# Altium integrated library Integrated_Library.IntLib: 10 symbols
Pins are listed as number, name and electrical type; pins without a type are passive.

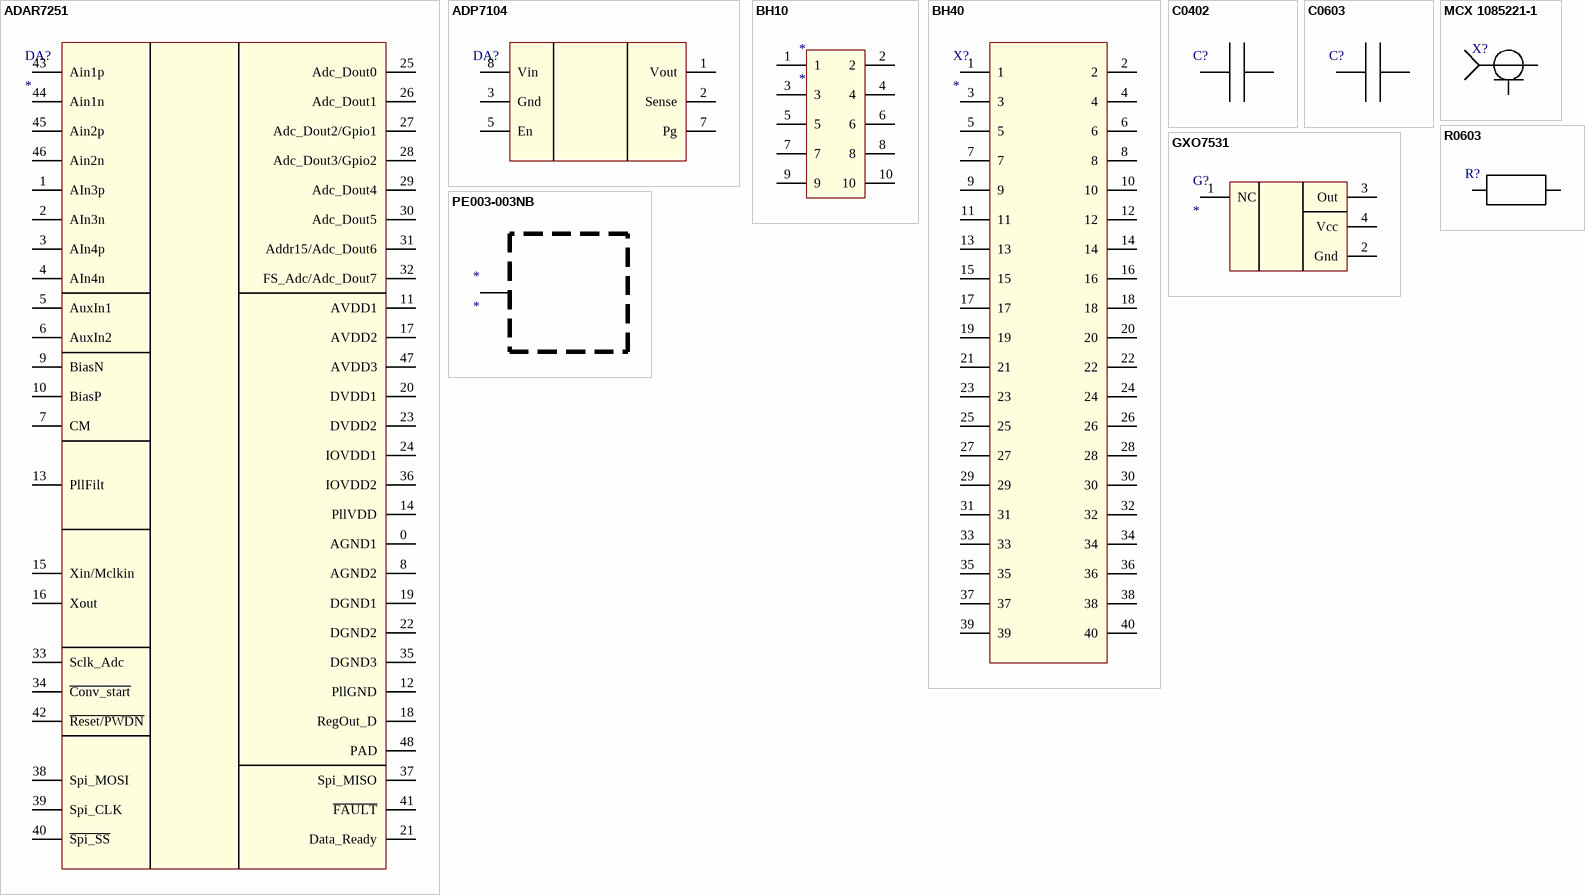
[diagram p0: symbols ADAR7251 to R0603]

## ADAR7251
designator DA?
footprint PQFN50P700X700X100_HS-49N (PQFN, 48-Leads, Body 7,00x7,00mm, Pitch 0,50mm, Thermal Pad 4,00x5,60mm, IPC Medium Density)
pins: 0 AGND1, 1 AIn3p, 2 AIn3n, 3 AIn4p, 4 AIn4n, 5 AuxIn1, 6 AuxIn2, 7 CM, 8 AGND2, 9 BiasN, 10 BiasP, 11 AVDD1, 12 PllGND, 13 PllFilt, 14 PllVDD, 15 Xin/Mclkin, 16 Xout, 17 AVDD2, 18 RegOut_D, 19 DGND1, 20 DVDD1, 21 Data_Ready, 22 DGND2, 23 DVDD2, 24 IOVDD1, 25 Adc_Dout0, 26 Adc_Dout1, 27 Adc_Dout2/Gpio1, 28 Adc_Dout3/Gpio2, 29 Adc_Dout4, 30 Adc_Dout5, 31 Addr15/Adc_Dout6, 32 FS_Adc/Adc_Dout7, 33 Sclk_Adc, 34 ~{Conv_start}, 35 DGND3, 36 IOVDD2, 37 Spi_MISO, 38 Spi_MOSI, 39 Spi_CLK, 40 ~{Spi_SS}, 41 ~{FAULT}, 42 ~{Reset/PWDN}, 43 Ain1p, 44 Ain1n, 45 Ain2p, 46 Ain2n, 47 AVDD3, 48 PAD

## ADP7104
designator DA?  (value not drawn)
footprint SOIC127P600X165_HS-9N (SOIC, 8-Leads, Body 4,90x3,90mm, Pitch 1,27mm, Thermal Pad 3,00x2,50mm, IPC Medium Density)
pins: 1 Vout, 2 Sense, 3 Gnd, 5 En, 7 Pg, 8 Vin

## BH10
designator *
footprint BH10
pins: 1, 2, 3, 4, 5, 6, 7, 8, 9, 10

## BH40
designator X?
footprint BH40
pins: 1, 2, 3, 4, 5, 6, 7, 8, 9, 10, 11, 12, 13, 14, 15, 16, 17, 18, 19, 20, 21, 22, 23, 24, 25, 26, 27, 28, 29, 30, 31, 32, 33, 34, 35, 36, 37, 38, 39, 40

## C0402
designator C?  (value not drawn)
footprint CAPC1005X06N (Chip Capacitor, 2-Leads, Body 1,00x0,50mm, IPC Medium Density)
pins: 1, 2

## C0603
designator C?  (value not drawn)
footprint CAPC1608X06N (Chip Capacitor, 2-Leads, Body 1,60x0,81mm, IPC Medium Density)
pins: 1, 2

## GXO7531
designator G?
footprint DFN400P700X145-4N (DFN, 4-Leads, Body 5,00x7,00mm, Pitch 4,00mm, IPC Medium Density)
pins: 1 NC, 2 Gnd, 3 Out, 4 Vcc

## MCX 1085221-1
designator X?  (value not drawn)
footprint MCX
pins: 1, 2

## PE003-003NB
designator *
footprint PE003-003NB
pins: 0

## R0603
designator R?  (value not drawn)
footprint RESC1608X06N (Chip Resistor, 2-Leads, Body 1,60x0,81mm, IPC Medium Density)
pins: 1, 2